# Altium schematic symbol library BJT-NPN.SchLib: 1 symbol
Pins are listed as number, name and electrical type; pins without a type are passive.

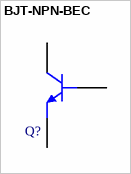
[diagram p0: symbol BJT-NPN-BEC]

## BJT-NPN-BEC
designator Q?  (value not drawn)
pins: 1 B, 2 E, 3 C